# EAGLE library part DMN65D8LDW (library Railstars)
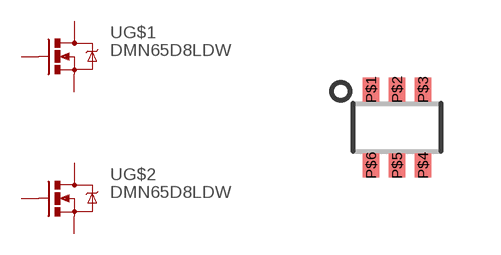
[diagram p23: symbol with the pads of SOT363; footprint SOT363]

Designator prefix -; gates G$1=MOSFET-NCHANNEL G$2=MOSFET-NCHANNEL

## DMN65D8LDW  [SOT363]
P$1  G$2:D  pas
P$2  G$1:G  pas
P$3  G$1:S  pas
P$4  G$1:D  pas
P$5  G$2:G  pas
P$6  G$2:S  pas

## Footprint SOT363 (pad centres in mm)
smd 0.42 x 0.6: P$1 -0.65,0.95; P$2 0,0.95; P$3 0.65,0.95; P$4 0.65,-0.95; P$5 0,-0.95; P$6 -0.65,-0.95